# Altium schematic symbol library drive_Project1.SCHLIB: 13 symbols
Pins are listed as number, name and electrical type; pins without a type are passive.

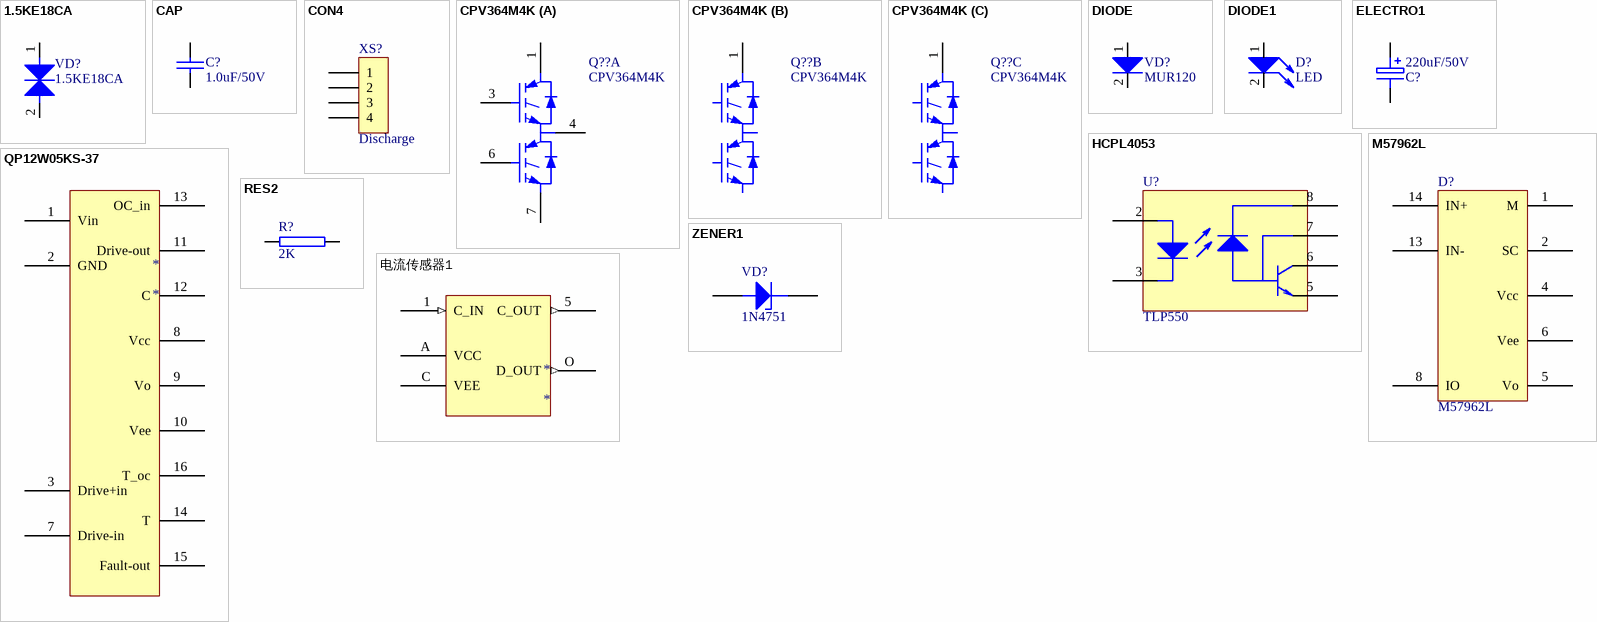
[diagram p0: symbols 1.5KE18CA to 电流传感器1]

## 1.5KE18CA
designator VD?
footprint DIODE0.4-23
pins: 1, 2

## CAP
designator C?, comment 1.0uF/50V
Capacitor
footprint RAD0.2
pins: 1, 2

## CON4
designator XS?, comment Discharge
Connector
footprint POWER4-1
pins: 1, 2, 3, 4

## CPV364M4K
designator Q??
IGBT Sip Module; Note: Pins 2, 5, 8, 11, 14 and 17 are not present; Published: 8-Jun-2000; LatestRevisionDate: 17-Jul-2002; LatestRevisionNote: Re-released for DXP Platform.; DatasheetVersion: Jul-1997; PackageVersion: Dec-1996; PackageReference: IMS-2; Publisher: Altium Limited; PackageDescription: SIP; 19 Leads (6 Absent); Body 62.4 x 7.9 mm (LxW typ); Pitch 2.54 mm; ComponentLink1Description: Manufacturer Link; ComponentLink1URL: http://www.irf.com/; ComponentLink2Description: Datasheet; ComponentLink2URL: http://www.irf.com/product-info/datasheets/data/cpv364m4k.pdf
footprint IMS-2 (SIP; 19 Leads (6 Absent); Body 62.4 x 7.9 mm (LxW typ); Pitch 2.54 mm)
pins on every part: 1 C
part A pins: 3 G1, 4 OUT, 6 G2, 7 E
part B pins: 9 G1 hidden, 10 OUT hidden, 12 G2 hidden, 13 E hidden
part C pins: 15 G1 hidden, 16 OUT hidden, 18 G2 hidden, 19 E hidden

## DIODE
designator VD?, comment MUR120
DIODE
footprint DIODE0.4-21
pins: 1, 2

## DIODE1
designator D?, comment LED
footprint RB.1/.2
pins: 1, 2

## ELECTRO1
designator C?, comment 220uF/50V
Electrolytic Capacitor
footprint RB.2/.4
pins: 1, 2

## HCPL4053
designator U?, comment TLP550
footprint DIP8
pins: 2, 3, 5, 6, 7, 8

## M57962L
designator D?
footprint IGBT-D579
pins: 1 M, 2 SC, 4 Vcc, 5 Vo, 6 Vee, 8 IO, 13 IN-, 14 IN+

## QP12W05KS-37
designator *
pins: 1 Vin, 2 GND, 3 Drive+in, 7 Drive-in, 8 Vcc, 9 Vo, 10 Vee, 11 Drive-out, 12 C, 13 OC_in, 14 T, 15 Fault-out, 16 T_oc

## RES2
designator R?, comment 2K
footprint AXIAL0.4
footprint AXIAL0.6
footprint AXIAL0.8
pins: 1, 2

## ZENER1
designator VD?, comment 1N4751
Zener Diode
footprint DIODE0.4-5
pins: 1 A, 2 K

## 电流传感器1
designator *
pins: 1 C_IN (in), 5 C_OUT (out), A VCC (power), C VEE (power), O D_OUT (out)